# Altium footprint library PCB_IntegratedCircuit.PcbLib: 36 footprints (part 2 of 3)
Each footprint in its own frame and in the unit in brackets; x right, y up, seen from the top. Pads: shape width x height; smd on the part's side, far side on the other; paste and mask are expansions set on the pad; w line width, h text height; cw(c..) or ccw(c..) is an arc to the next point about the centre after c.
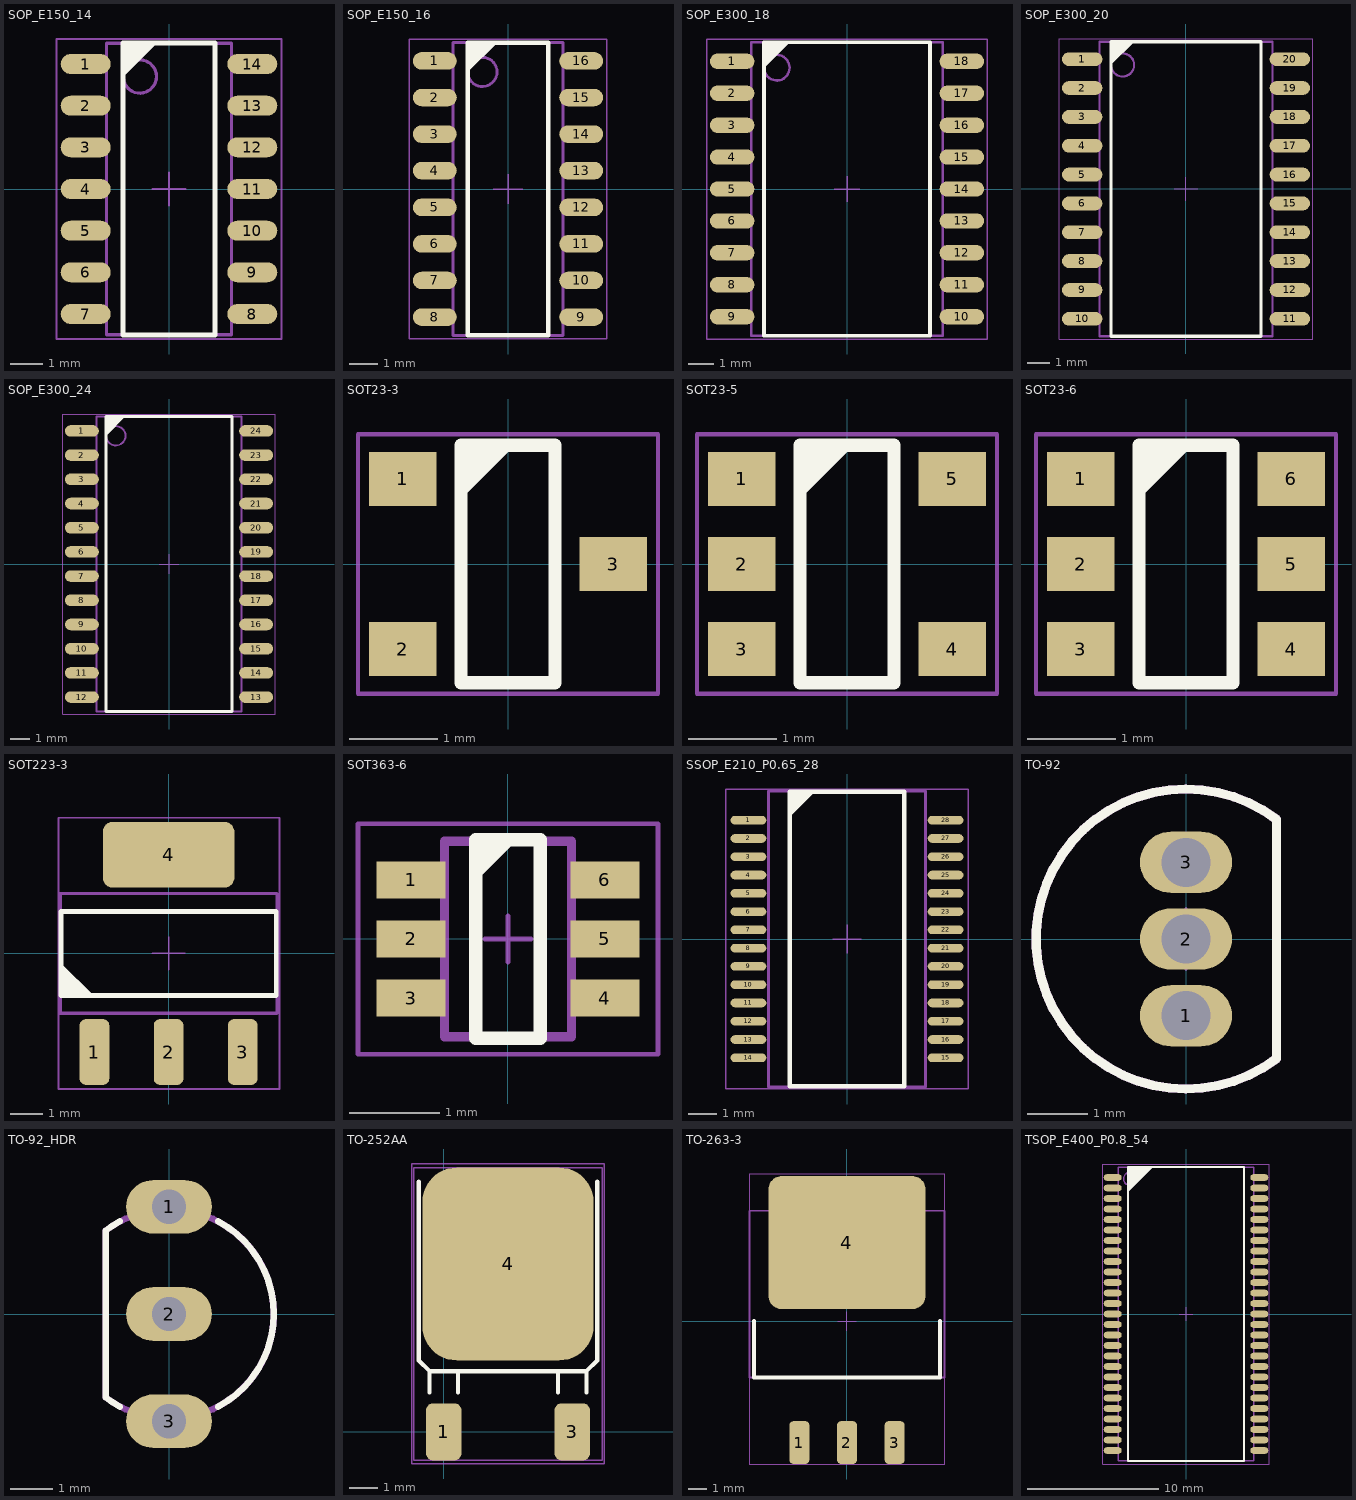
[diagram p1: the footprints below, top view; thin cyan lines are the x and y axes]

## SOP_E150_14 [mil]
height 68.9
pads (14):
  oval 60x24 smd: 1(-100,150) 2(-100,100) 3(-100,50) 4(-100,0) 5(-100,-50) 6(-100,-100) 7(-100,-150) 8(100,-150) 9(100,-100) 10(100,-50) 11(100,0) 12(100,50) 13(100,100) 14(100,150)
Top Overlay:
  region: -55,175 -15,175 -55,135
  lines w6: -55,-175 55,-175 55,175 -55,175 -55,-175
Mechanical 13:
  circle w4: c-35,135 r20
  lines w2: -20,0 20,0 ; 0,-20 0,20
  lines w4: -75,-175 -75,175 75,175 75,-175 -75,-175
T-Component:
  lines w2: -135,-180 135,-180 135,180 -135,180 -135,-180
3D body: height 68.9, standoff 0, extent -118.1,-172.24 118.11,172.25

## SOP_E150_16 [mil]
height 68.9
pads (16):
  oval 60x24 smd: 1(-100,175) 2(-100,125) 3(-100,75) 4(-100,25) 5(-100,-25) 6(-100,-75) 7(-100,-125) 8(-100,-175) 9(100,-175) 10(100,-125) 11(100,-75) 12(100,-25) 13(100,25) 14(100,75) 15(100,125) 16(100,175)
Top Overlay:
  region: -55,200 -15,200 -55,160
  lines w6: -55,-200 55,-200 55,200 -55,200 -55,-200
Mechanical 13:
  circle w4: c-35,160 r20
  lines w2: -20,0 20,0 ; 0,-20 0,20
  lines w4: -75,-200 -75,200 75,200 75,-200 -75,-200
T-Component:
  lines w2: -135,-205 135,-205 135,205 -135,205 -135,-205
3D body: height 68.9, standoff 0, extent -118.1,-196.85 118.11,196.85

## SOP_E300_18 [mil]
height 104.33
pads (18):
  oval 70x24 smd: 1(-180,200) 2(-180,150) 3(-180,100) 4(-180,50) 5(-180,0) 6(-180,-50) 7(-180,-100) 8(-180,-150) 9(-180,-200) 10(180,-200) 11(180,-150) 12(180,-100) 13(180,-50) 14(180,0) 15(180,50) 16(180,100) 17(180,150) 18(180,200)
Top Overlay:
  region: -130,230 -90,230 -130,190
  lines w6: -130,-230 -130,230 130,230 130,-230 -130,-230
Mechanical 13:
  circle w4: c-110,190 r20
  lines w2: -20,0 20,0 ; 0,-20 0,20
  lines w4: -150,-230 -150,230 150,230 150,-230 -150,-230
T-Component:
  lines w2: -220,-235 220,-235 220,235 -220,235 -220,-235
3D body: height 101.26, standoff -1.1, extent -208.66,-231.29 208.66,231.31

## SOP_E300_20 [mil]
height 104.33
pads (20):
  oval 70x24 smd: 1(-180,225) 2(-180,175) 3(-180,125) 4(-180,75) 5(-180,25) 6(-180,-25) 7(-180,-75) 8(-180,-125) 9(-180,-175) 10(-180,-225) 11(180,-225) 12(180,-175) 13(180,-125) 14(180,-75) 15(180,-25) 16(180,25) 17(180,75) 18(180,125) 19(180,175) 20(180,225)
Top Overlay:
  region: -130,255 -90,255 -130,215
  lines w6: -130,-255 130,-255 130,255 -130,255 -130,-255
Mechanical 13:
  circle w4: c-110,215 r20
  lines w2: -20,0 20,0 ; 0,-20 0,20
  lines w4: -150,-255 150,-255 150,255 -150,255 -150,-255
T-Component:
  lines w2: -220,-260 -220,260 220,260 220,-260 -220,-260
3D body: height 101.26, standoff -1.1, extent -208.66,-255.9 208.66,255.91

## SOP_E300_24 [mil]
height 104.33
pads (24):
  oval 70x24 smd: 1(-180,275) 2(-180,225) 3(-180,175) 4(-180,125) 5(-180,75) 6(-180,25) 7(-180,-25) 8(-180,-75) 9(-180,-125) 10(-180,-175) 11(-180,-225) 12(-180,-275) 13(180,-275) 14(180,-225) 15(180,-175) 16(180,-125) 17(180,-75) 18(180,-25) 19(180,25) 20(180,75) 21(180,125) 22(180,175) 23(180,225) 24(180,275)
Top Overlay:
  region: -130,305 -90,305 -130,265
  lines w6: -130,-305 130,-305 130,305 -130,305 -130,-305
Mechanical 13:
  circle w4: c-110,265 r20
  lines w2: -20,0 20,0 ; 0,-20 0,20
  lines w4: -150,-305 150,-305 150,305 -150,305 -150,-305
T-Component:
  lines w2: -220,-310 220,-310 220,310 -220,310 -220,-310
3D body: height 102.36, standoff 0, extent -204.72,-308.46 204.73,297.84

## SOT23-3 [mil]
height 39.5
pads (3):
  rect 30x24 smd: 1(-47,38) 2(-47,-38) 3(47,0)
Top Overlay:
  region: -21,53 3,53 -21,29
  lines w6: -21,-53 -21,53 21,53 21,-53 -21,-53
T-Component:
  lines w2: -67,-58 -67,58 67,58 67,-58 -67,-58
3D body: height 51.18, standoff 0, extent -55.11,-57.09 55.12,57.09

## SOT23-5 [mil]
height 62.99
pads (5):
  rect 30x24 smd: 1(-47,38) 2(-47,0) 3(-47,-38) 4(47,-38) 5(47,38)
Top Overlay:
  region: -21,53 3,53 -21,29
  lines w6: -21,-53 21,-53 21,53 -21,53 -21,-53
T-Component:
  lines w2: -67,-58 -67,58 67,58 67,-58 -67,-58
3D body: height 57.09, standoff 0, extent -55.11,-57.09 55.12,57.09

## SOT23-6 [mil]
height 62.99
pads (6):
  rect 30x24 smd: 1(-47,38) 2(-47,0) 3(-47,-38) 4(47,-38) 5(47,0) 6(47,38)
Top Overlay:
  region: -21,53 3,53 -21,29
  lines w6: -21,-53 -21,53 21,53 21,-53 -21,-53
T-Component:
  lines w2: -67,-58 -67,58 67,58 67,-58 -67,-58
3D body: height 57.09, standoff 0, extent -55.11,-57.09 55.12,57.09

## SOT223-3 [mil]
height 70.87
pads (4):
  rrect40% 36x80 smd: 1(-90.16,-120) 2(0,-120) 3(90.16,-120)
  rrect30% 160x80 smd: 4(0,120)
Top Overlay:
  region: -131,-51.18 -131,-11.81 -91.63,-51.18
  lines w6: -131,-51.18 -131,51.18 131,51.18 131,-51.18 -131,-51.18
Mechanical 13:
  lines w2: -20,0 20,0 ; 0,-20 0,20
  lines w3.94: -131.89,-72.83 -131.89,72.83 131.89,72.83 131.89,-72.83 -131.89,-72.83
T-Component:
  lines w2: -134,-165 -134,165 135,165 135,-165 -134,-165
3D body: height 70.87, standoff 0, extent -131.88,-143.69 131.9,143.71

## SOT363-6 [mil]
height 43.31
pads (6):
  rect 30x16 smd: 1(-42,25.59) 2(-42,0) 3(-42,-25.59) 4(42,-25.59) 5(42,0) 6(42,25.59)
Top Overlay:
  region: -14,43 0,43 -14,29
  lines w6: -14,29 0,43 ; -14,-43 -14,43 14,43 14,-43 -14,-43
Mechanical 13:
  lines w2: -10,0 10,0 ; 0,-10 0,10
  lines w4: -27.56,-42.32 -27.56,42.32 27.56,42.32 27.56,-42.32 -27.56,-42.32
T-Component:
  lines w2: -65,-50 -65,50 65,50 65,-50 -65,-50
3D body: height 36.73, standoff -0.67, extent -41.34,-39.37 41.34,39.36

## SSOP_E210_P0.65_28 [mil]
height 78.74
pads (28):
  oval 50x12 smd: 1(-138,166.34) 2(-138,140.75) 3(-138,115.16) 4(-138,89.57) 5(-138,63.98) 6(-138,38.39) 7(-138,12.8) 8(-138,-12.8) 9(-138,-38.39) 10(-138,-63.98) 11(-138,-89.57) 12(-138,-115.16) 13(-138,-140.75) 14(-138,-166.34) 15(138,-166.34) 16(138,-140.75) 17(138,-115.16) 18(138,-89.57) 19(138,-63.98) 20(138,-38.39) 21(138,-12.8) 22(138,12.8) 23(138,38.39) 24(138,63.98) 25(138,89.57) 26(138,115.16) 27(138,140.75) 28(138,166.34)
Top Overlay:
  region: -80,206 -45,206 -80,171
  lines w6: -80,-206 80,-206 80,206 -80,206 -80,-206
Mechanical 13:
  lines w2: -19.69,0 19.68,0 ; 0,-19.68 0,19.69
  lines w4: -110,-207 110,-207 110,207 -110,207 -110,-207
T-Component:
  lines w2: -170,-210 170,-210 170,210 -170,210 -170,-210
3D body: height 84.65, standoff 0, extent -152.66,-203.34 152.68,203.35

## TO-92 [mil]
pads (3):
  oval 60x40 hole 32: 1(0,-50) 2(0,0) 3(0,50)
Top Overlay:
  lines w6: 59.06,-77.95 cw(c0,0) 59.06,77.95 59.05,-77.95
Mechanical 13:
  lines w6: 59.06,-77.95 cw(c0,0) 59.06,77.95 59.05,-77.95
B-Component:
  lines w2: -20,0 20,0 ; 0,-20 0,20
3D body: height 405.76, standoff -228.35, extent -120,-124.1 69.37,120

## TO-92_HDR [mil]
pads (3):
  oval 80x50 hole 32: 1(0,100) 2(0,0) 3(0,-100)
Top Overlay:
  lines w6: -45.76,-86.43 cw(c0,0) -59.06,-77.95 -59.05,77.95 cw(c0,0) -45.76,86.43 ; 45.76,-86.43 ccw(c0,0) 45.76,86.43
Mechanical 13:
  lines w6: -59.06,-77.95 ccw(c0,0) -59.06,77.95 -59.05,-77.95
B-Component:
  lines w2: -20,0 20,0 ; 0,-20 0,20
3D body: height 409.84, standoff -300, extent -60.24,-112.28 104.72,113.7

## TO-252AA [mil]
pads (3):
  rrect40% 50x80 smd: 1(0,0) 3(180,0)
  rrect40% 240x270 smd: 4(90,235)
Top Overlay:
  lines w6: -35,350 -35,100 -20,85 ; -20,55 -20,85 ; 20,55 20,85 ; 160,55 160,85 ; 200,55 200,85 ; 215,350 215,100 200,85 ; -20,85 200,85
Mechanical 13:
  lines w2: -42,-40 222,-40 222,370 -42,370 -42,-40
T-Component:
  lines w2: -45,-45 -45,375 225,375 225,-45 -45,-45
3D body: height 90.56, standoff -4.52, extent -38.73,-31.77 218.75,359.5

## TO-263-3 [mil]
height 182.68
pads (4):
  rrect40% 42x90 smd: 1(-100,-255) 2(0,-255) 3(100,-255)
  rrect20% 330x280 smd: 4(0,165)
Top Overlay:
  lines w8: -195,0 -195,-118.11 195,-118.11 195,0
Mechanical 13:
  lines w2: -19.68,0 19.68,0 ; 0,-19.68 0,19.68
  lines w4: -204.72,-118.11 204.72,-118.11 204.72,231.89 -204.72,231.89 -204.72,-118.11
T-Component:
  lines w2: -205,-300 205,-300 205,310 -205,310 -205,-300
3D body: height 184.65, standoff 0, extent -199.99,-292.88 200.01,315

## TSOP_E400_P0.8_54 [mil]
height 47.24
pads (54):
  oval 54x20 smd: 1(-220,409.45) 2(-220,377.95) 3(-220,346.46) 4(-220,314.96) 5(-220,283.46) 6(-220,251.97) 7(-220,220.47) 8(-220,188.98) 9(-220,157.48) 10(-220,125.98) 11(-220,94.49) 12(-220,62.99) 13(-220,31.5) 14(-220,0) 15(-220,-31.5) 16(-220,-62.99) 17(-220,-94.49) 18(-220,-125.98) 19(-220,-157.48) 20(-220,-188.98) 21(-220,-220.47) 22(-220,-251.97) 23(-220,-283.47) 24(-220,-314.96) 25(-220,-346.46) 26(-220,-377.95) 27(-220,-409.45) 28(220,-409.45) 29(220,-377.95) 30(220,-346.46) 31(220,-314.96) 32(220,-283.47) 33(220,-251.97) 34(220,-220.47) 35(220,-188.98) 36(220,-157.48) 37(220,-125.98) 38(220,-94.49) 39(220,-62.99) 40(220,-31.5) 41(220,0) 42(220,31.5) 43(220,62.99) 44(220,94.49) 45(220,125.98) 46(220,157.48) 47(220,188.98) 48(220,220.47) 49(220,251.97) 50(220,283.46) 51(220,314.96) 52(220,346.46) 53(220,377.95) 54(220,409.45)
Top Overlay:
  region: -174.21,440.94 -99.06,440.94 -174.21,365.79
  lines w6: -174.21,-440.94 -174.21,440.94 174.21,440.94 174.21,-440.94 -174.21,-440.94
Mechanical 13:
  circle w4: c-167.32,405.51 r19.68
  lines w2: -20,0 20,0 ; 0,-20 0,20
  lines w4: -202.76,-440.94 -202.76,440.94 202.76,440.94 202.76,-440.94 -202.76,-440.94
T-Component:
  lines w2: -250,-450 250,-450 250,450 -250,450 -250,-450
3D body: height 51, standoff -15.9, extent -231.5,-437.8 231.5,437